# Altium integrated library CRGH0603J100R.IntLib: 1 symbol
Pins are listed as number, name and electrical type; pins without a type are passive.

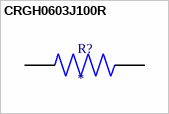
[diagram p0: symbol CRGH0603J100R]

## CRGH0603J100R
designator R?
CRGH0603 5% 100R 0.2W; MP: CRGH0603J100R; Package: None; Price: None; Value: *; Availability: Unavailable
footprint RESC1608X55N
pins: 1, 2